# EAGLE library part BOX_HEADER_26 (library box-headers)
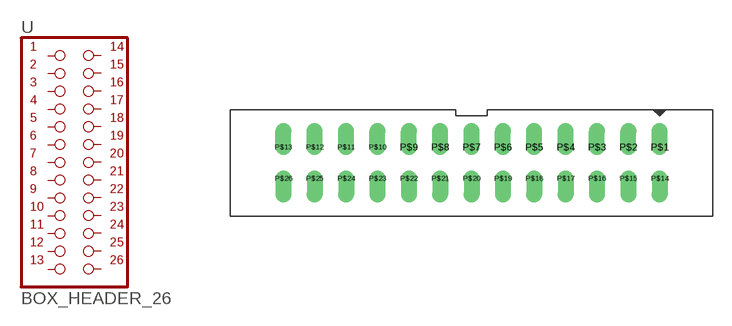
[diagram p0: symbol with the pads of BOX_HEADER_26; footprint BOX_HEADER_26]

Designator prefix -

## BOX_HEADER_26  [BOX_HEADER_26]
P$1  1  pas
P$2  2  pas
P$3  3  pas
P$4  4  pas
P$5  5  pas
P$6  6  pas
P$7  7  pas
P$8  8  pas
P$9  9  pas
P$10  10  pas
P$11  11  pas
P$12  12  pas
P$13  13  pas
P$14  14  pas
P$15  15  pas
P$16  16  pas
P$17  17  pas
P$18  18  pas
P$19  19  pas
P$20  20  pas
P$21  21  pas
P$22  22  pas
P$23  23  pas
P$24  24  pas
P$25  25  pas
P$26  26  pas

## Footprint BOX_HEADER_26 (pad centres in mm)
drill 0.8 offset: P$1 15.24,1.27; P$2 12.7,1.27; P$3 10.16,1.27; P$4 7.62,1.27; P$5 5.08,1.27; P$6 2.54,1.27; P$7 0,1.27; P$8 -2.54,1.27; P$9 -5.08,1.27; P$10 -7.62,1.27; P$11 -10.16,1.27; P$12 -12.7,1.27; P$13 -15.24,1.27; P$14 15.24,-1.27; P$15 12.7,-1.27; P$16 10.16,-1.27; P$17 7.62,-1.27; P$18 5.08,-1.27; P$19 2.54,-1.27; P$20 0,-1.27; P$21 -2.54,-1.27; P$22 -5.08,-1.27; P$23 -7.62,-1.27; P$24 -10.16,-1.27; P$25 -12.7,-1.27; P$26 -15.24,-1.27